# EAGLE library part TPIC6B596 (library eDNA)
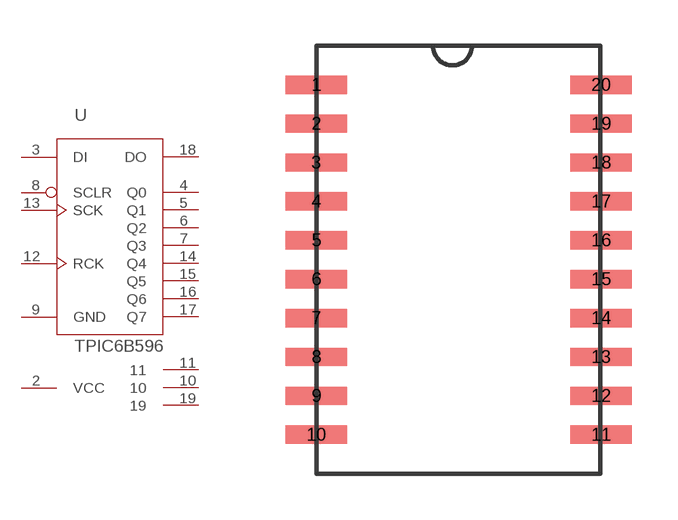
[diagram p1: symbol with the pads of DIP20; footprint DIP20]

Designator prefix -

## TPIC6B596  [DIP20]
2  VCC
3  DI
4  Q0
5  Q1
6  Q2
7  Q3
8  SCLR
9  GND
10  10
11  11
12  RCK
13  SCK
14  Q4
15  Q5
16  Q6
17  Q7
18  DO
19  19

## Footprint DIP20 (pad centres in mm)
smd 2 x 0.6: 1 -3.81,5.08; 2 -3.81,3.81; 3 -3.81,2.54; 4 -3.81,1.27; 5 -3.81,0; 6 -3.81,-1.27; 7 -3.81,-2.54; 8 -3.81,-3.81; 9 -3.81,-5.08; 10 -3.81,-6.35; 11 5.49,-6.35; 12 5.49,-5.08; 13 5.49,-3.81; 14 5.49,-2.54; 15 5.49,-1.27; 16 5.49,0; 17 5.49,1.27; 18 5.49,2.54; 19 5.49,3.81; 20 5.49,5.08